# EAGLE library part CM1624 (library on_2020)
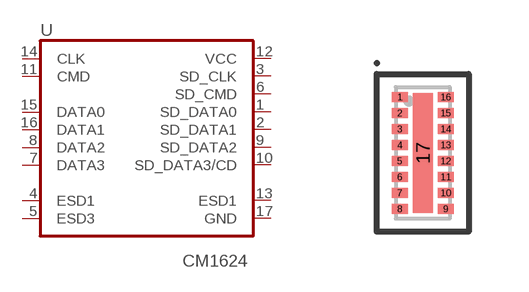
[diagram p0: symbol with the pads of 517BE; footprint 517BE]

Designator prefix -

## CM1624-08DE  [517BE]
1  SD_DATA0
2  SD_DATA1
3  SD_CLK
4  ESD1
5  ESD3
6  SD_CMD
7  DATA3
8  DATA2
9  SD_DATA2
10  SD_DATA3/CD
11  CMD
12  VCC  pwr
13  ESD1
14  CLK
15  DATA0
16  DATA1
17  GND  pwr

## Footprint 517BE (pad centres in mm)
smd 0.4 x 0.25: 1 -0.575,1.4; 2 -0.575,1; 3 -0.575,0.6; 4 -0.575,0.2; 5 -0.575,-0.2; 6 -0.575,-0.6; 7 -0.575,-1; 8 -0.575,-1.4; 9 0.575,-1.4; 10 0.575,-1; 11 0.575,-0.6; 12 0.575,-0.2; 13 0.575,0.2; 14 0.575,0.6; 15 0.575,1; 16 0.575,1.4
smd 0.5 x 3: 17 0,0